# Altium footprint library pot-vitrohm.PCBLIB: 1 footprints
Each footprint in its own frame and in the unit in brackets; x right, y up, seen from the top. Pads: shape width x height; smd on the part's side, far side on the other; paste and mask are expansions set on the pad; w line width, h text height; cw(c..) or ccw(c..) is an arc to the next point about the centre after c.
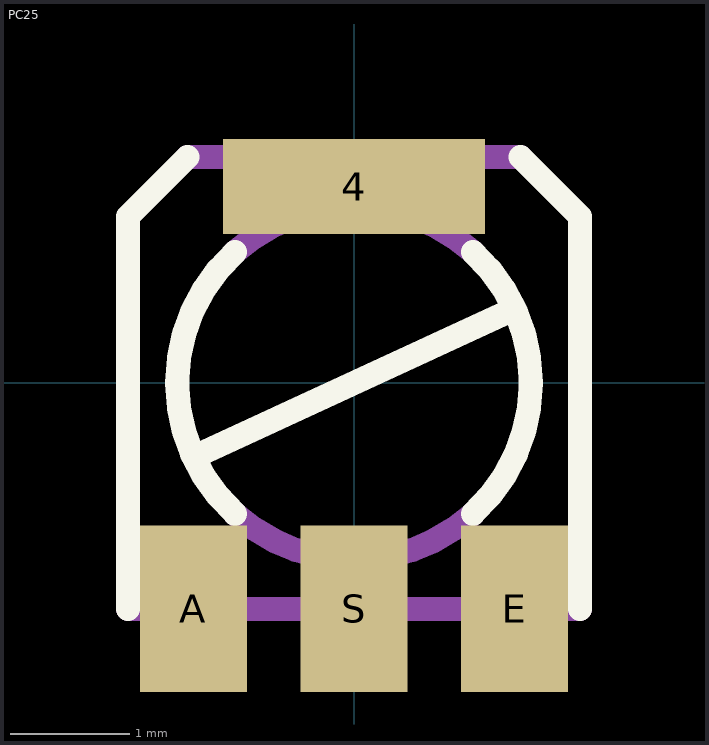
[diagram p0: the footprint, top view; thin cyan lines are the x and y axes]

## PC25 [mm]
pads (4):
  rect 2.2x0.8 smd: 4(0,1.65)
  rect 0.9x1.4 smd: A(-1.35,-1.9) E(1.35,-1.9) S(0,-1.9)
Top Overlay:
  lines w0.203: -1.9,-1.9 -1.9,1.4 -1.4,1.9 ; -1.3,-0.6 1.3,0.6 ; -1,-1.1 cw(c0,0) -1,1.1 ; 1,-1.1 ccw(c0,0) 1,1.1 ; 1.4,1.9 1.9,1.4 1.9,-1.9
Mechanical 16:
  lines w0.203: -1.9,-1.9 -1.6,-1.9 -1.6,-2.4 -1.1,-2.4 -1.1,-1.9 -0.25,-1.9 -0.25,-2.4 0.25,-2.4 0.25,-1.9 1.1,-1.9 1.1,-2.4 1.6,-2.4 1.6,-1.9 1.9,-1.9 ; -1.4,1.9 1.4,1.9 ; -1,-1.1 ccw(c0,0) 1,-1.1 ; -1,1.1 cw(c0,0) 1,1.1